# EAGLE library part JHL7440 (library JHL7440_Eagle_R01)
DISCLAIMER: THE DESIGN HASN'T BEEN VERIFIED, JUST FOR YOUR REFERENCE. EVERYTHING IS PROVIDED AS IS, WITHOUT WARRANTY OF ANY KIND, NOT RESPONSIBLE FOR THE QUALITY. If you find any issues with this file, please create an issue in the repo projects.kolabo.dev/
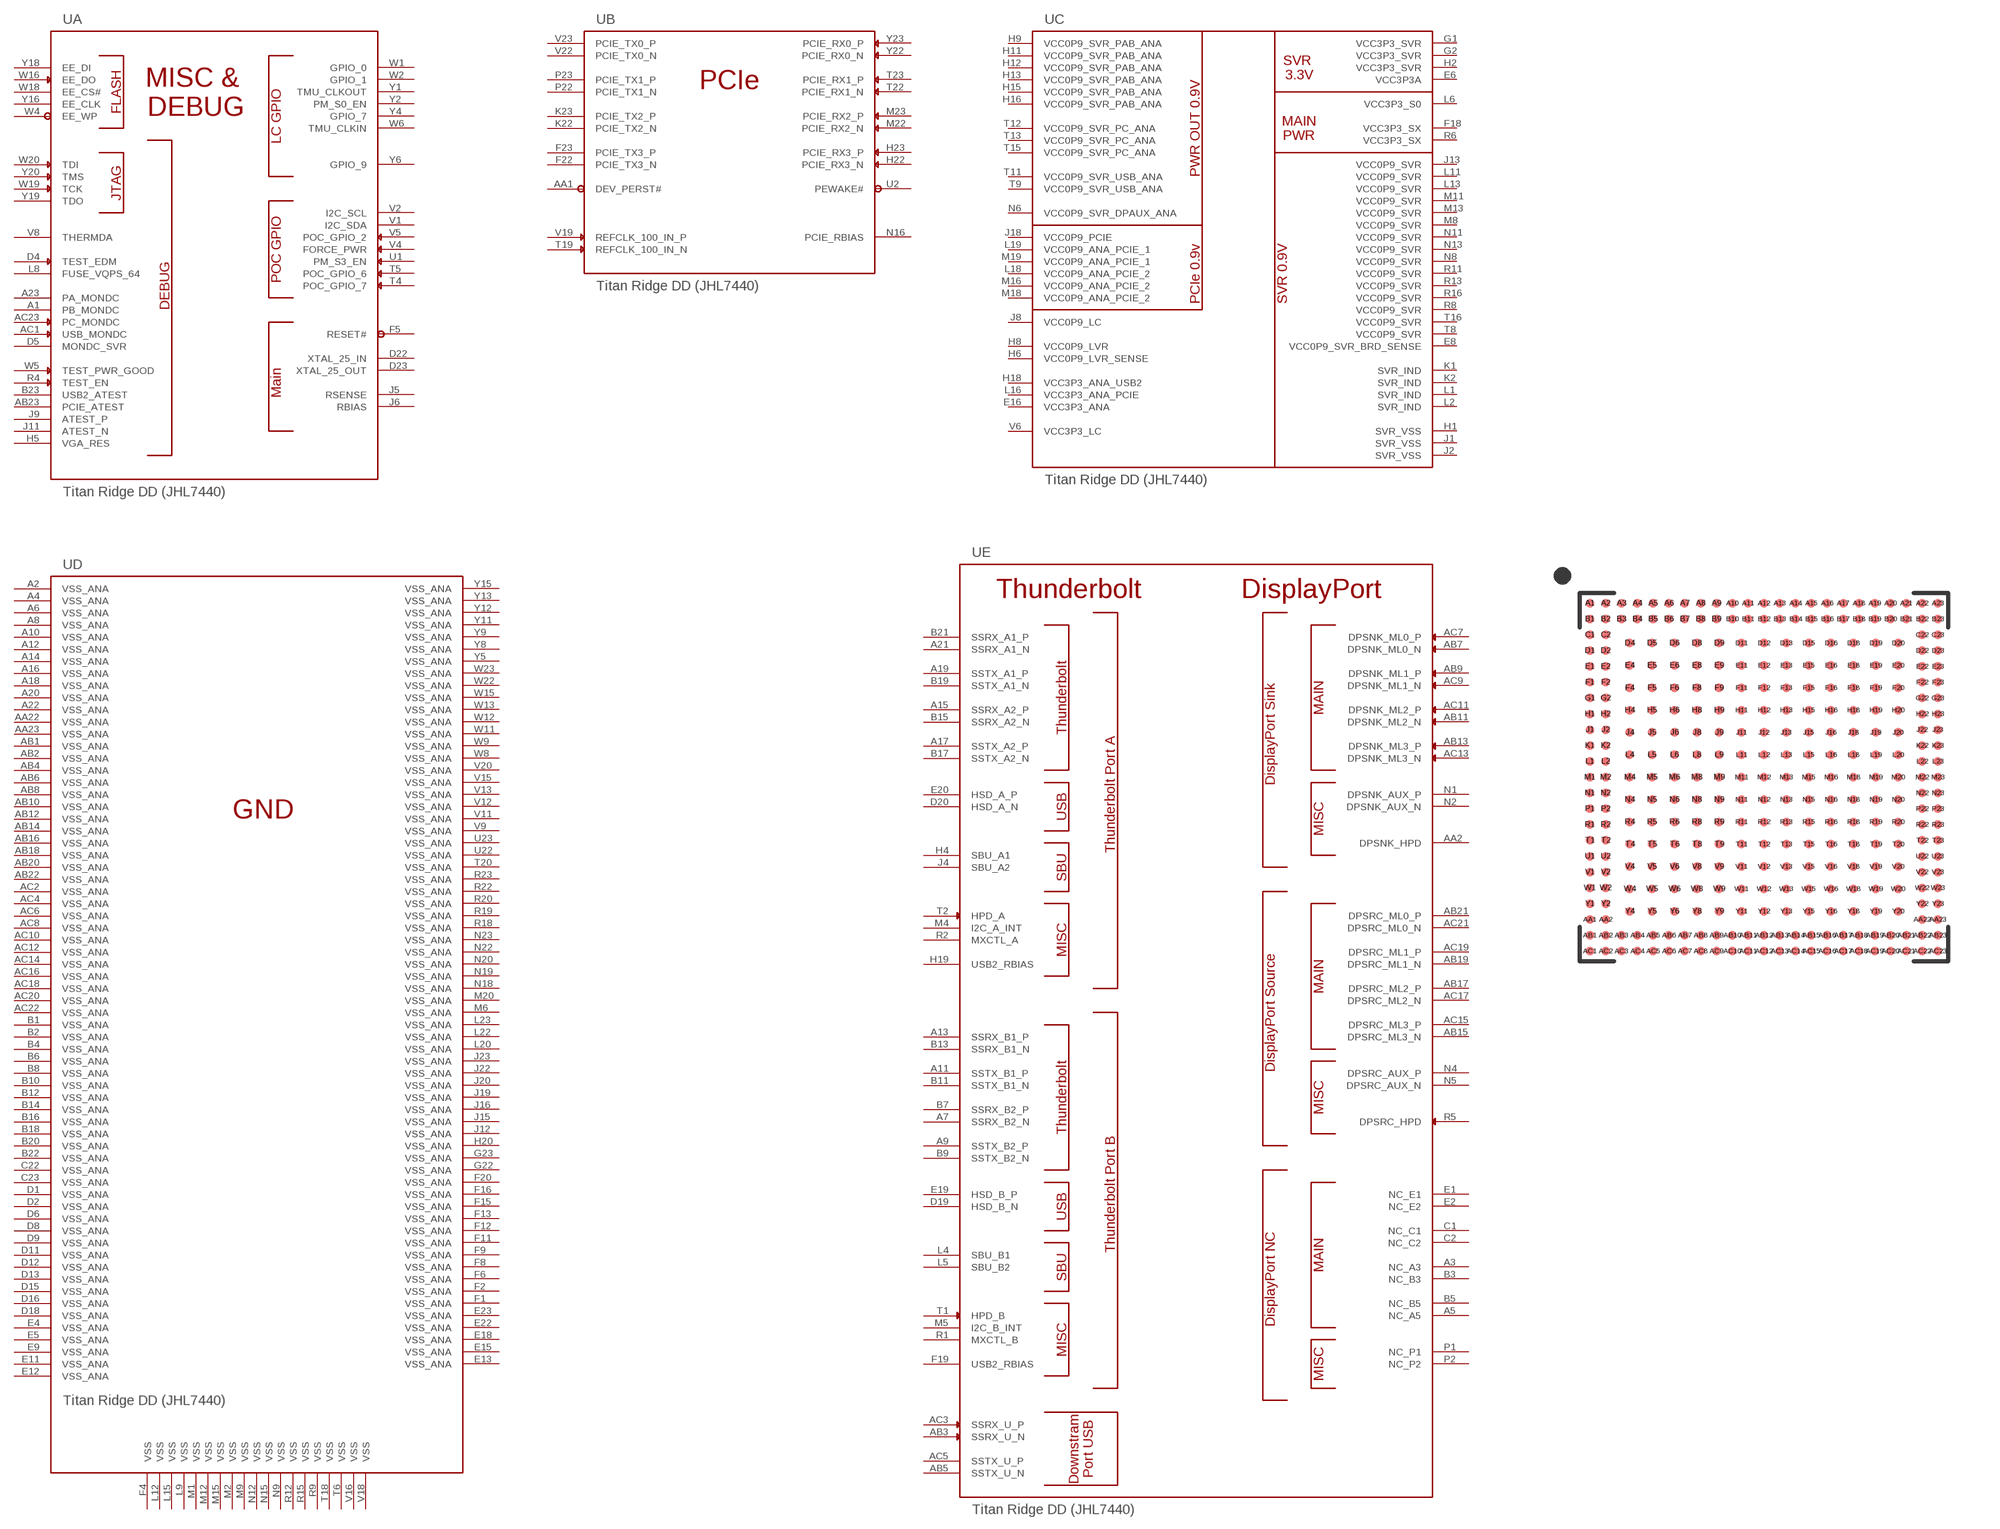
[diagram p0: symbol with the pads of TITAN_RIDGE_BGA_337P; footprint TITAN_RIDGE_BGA_337P]

Designator prefix -; gates A=JHL7440_A B=JHL7440_B C=JHL7440_C D=JHL7440_D E=JHL7440_E

## JHL7440  [TITAN_RIDGE_BGA_337P]
A1  A:PB_MONDC
A2  D:VSS_ANA
A3  E:NC_A3  nc
A4  D:VSS_ANA
A5  E:NC_A5  nc
A6  D:VSS_ANA
A7  E:SSRX_B2_N
A8  D:VSS_ANA
A9  E:SSTX_B2_P
A10  D:VSS_ANA
A11  E:SSTX_B1_P
A12  D:VSS_ANA
A13  E:SSRX_B1_P
A14  D:VSS_ANA
A15  E:SSRX_A2_P
A16  D:VSS_ANA
A17  E:SSTX_A2_P
A18  D:VSS_ANA
A19  E:SSTX_A1_P
A20  D:VSS_ANA
A21  E:SSRX_A1_N
A22  D:VSS_ANA
A23  A:PA_MONDC
AA1  B:DEV_PERST#
AA2  E:DPSNK_HPD
AA22  D:VSS_ANA
AA23  D:VSS_ANA
AB1  D:VSS_ANA
AB2  D:VSS_ANA
AB3  E:SSRX_U_N
AB4  D:VSS_ANA
AB5  E:SSTX_U_N
AB6  D:VSS_ANA
AB7  E:DPSNK_ML0_N
AB8  D:VSS_ANA
AB9  E:DPSNK_ML1_P
AB10  D:VSS_ANA
AB11  E:DPSNK_ML2_N
AB12  D:VSS_ANA
AB13  E:DPSNK_ML3_P
AB14  D:VSS_ANA
AB15  E:DPSRC_ML3_N
AB16  D:VSS_ANA
AB17  E:DPSRC_ML2_P
AB18  D:VSS_ANA
AB19  E:DPSRC_ML1_N
AB20  D:VSS_ANA
AB21  E:DPSRC_ML0_P
AB22  D:VSS_ANA
AB23  A:PCIE_ATEST
AC1  A:USB_MONDC
AC2  D:VSS_ANA
AC3  E:SSRX_U_P
AC4  D:VSS_ANA
AC5  E:SSTX_U_P
AC6  D:VSS_ANA
AC7  E:DPSNK_ML0_P
AC8  D:VSS_ANA
AC9  E:DPSNK_ML1_N
AC10  D:VSS_ANA
AC11  E:DPSNK_ML2_P
AC12  D:VSS_ANA
AC13  E:DPSNK_ML3_N
AC14  D:VSS_ANA
AC15  E:DPSRC_ML3_P
AC16  D:VSS_ANA
AC17  E:DPSRC_ML2_N
AC18  D:VSS_ANA
AC19  E:DPSRC_ML1_P
AC20  D:VSS_ANA
AC21  E:DPSRC_ML0_N
AC22  D:VSS_ANA
AC23  A:PC_MONDC
B1  D:VSS_ANA
B2  D:VSS_ANA
B3  E:NC_B3  nc
B4  D:VSS_ANA
B5  E:NC_B5  nc
B6  D:VSS_ANA
B7  E:SSRX_B2_P
B8  D:VSS_ANA
B9  E:SSTX_B2_N
B10  D:VSS_ANA
B11  E:SSTX_B1_N
B12  D:VSS_ANA
B13  E:SSRX_B1_N
B14  D:VSS_ANA
B15  E:SSRX_A2_N
B16  D:VSS_ANA
B17  E:SSTX_A2_N
B18  D:VSS_ANA
B19  E:SSTX_A1_N
B20  D:VSS_ANA
B21  E:SSRX_A1_P
B22  D:VSS_ANA
B23  A:USB2_ATEST
C1  E:NC_C1  nc
C2  E:NC_C2  nc
C22  D:VSS_ANA
C23  D:VSS_ANA
D1  D:VSS_ANA
D2  D:VSS_ANA
D4  A:TEST_EDM
D5  A:MONDC_SVR
D6  D:VSS_ANA
D8  D:VSS_ANA
D9  D:VSS_ANA
D11  D:VSS_ANA
D12  D:VSS_ANA
D13  D:VSS_ANA
D15  D:VSS_ANA
D16  D:VSS_ANA
D18  D:VSS_ANA
D19  E:HSD_B_N
D20  E:HSD_A_N
D22  A:XTAL_25_IN
D23  A:XTAL_25_OUT
E1  E:NC_E1  nc
E2  E:NC_E2  nc
E4  D:VSS_ANA
E5  D:VSS_ANA
E6  C:VCC3P3A
E8  C:VCC0P9_SVR_BRD_SENSE
E9  D:VSS_ANA
E11  D:VSS_ANA
E12  D:VSS_ANA
E13  D:VSS_ANA
E15  D:VSS_ANA
E16  C:VCC3P3_ANA
E18  D:VSS_ANA
E19  E:HSD_B_P
E20  E:HSD_A_P
E22  D:VSS_ANA
E23  D:VSS_ANA
F1  D:VSS_ANA
F2  D:VSS_ANA
F4  D:VSS
F5  A:RESET#
F6  D:VSS_ANA
F8  D:VSS_ANA
F9  D:VSS_ANA
F11  D:VSS_ANA
F12  D:VSS_ANA
F13  D:VSS_ANA
F15  D:VSS_ANA
F16  D:VSS_ANA
F18  C:VCC3P3_SX
F19  E:USB2_RBIAS
F20  D:VSS_ANA
F22  B:PCIE_TX3_N
F23  B:PCIE_TX3_P
G1  C:VCC3P3_SVR
G2  C:VCC3P3_SVR
G22  D:VSS_ANA
G23  D:VSS_ANA
H1  C:SVR_VSS
H2  C:VCC3P3_SVR
H4  E:SBU_A1
H5  A:VGA_RES
H6  C:VCC0P9_LVR_SENSE
H8  C:VCC0P9_LVR
H9  C:VCC0P9_SVR_PAB_ANA
H11  C:VCC0P9_SVR_PAB_ANA
H12  C:VCC0P9_SVR_PAB_ANA
H13  C:VCC0P9_SVR_PAB_ANA
H15  C:VCC0P9_SVR_PAB_ANA
H16  C:VCC0P9_SVR_PAB_ANA
H18  C:VCC3P3_ANA_USB2
H19  E:USB2_RBIAS
H20  D:VSS_ANA
H22  B:PCIE_RX3_N
H23  B:PCIE_RX3_P
J1  C:SVR_VSS
J2  C:SVR_VSS
J4  E:SBU_A2
J5  A:RSENSE
J6  A:RBIAS
J8  C:VCC0P9_LC
J9  A:ATEST_P
J11  A:ATEST_N
J12  D:VSS_ANA
J13  C:VCC0P9_SVR
J15  D:VSS_ANA
J16  D:VSS_ANA
J18  C:VCC0P9_PCIE
J19  D:VSS_ANA
J20  D:VSS_ANA
J22  D:VSS_ANA
J23  D:VSS_ANA
K1  C:SVR_IND
K2  C:SVR_IND
K22  B:PCIE_TX2_N
K23  B:PCIE_TX2_P
L1  C:SVR_IND
L2  C:SVR_IND
L4  E:SBU_B1
L5  E:SBU_B2
L6  C:VCC3P3_S0
L8  A:FUSE_VQPS_64
L9  D:VSS
L11  C:VCC0P9_SVR
L12  D:VSS
L13  C:VCC0P9_SVR
L15  D:VSS
L16  C:VCC3P3_ANA_PCIE
L18  C:VCC0P9_ANA_PCIE_2
L19  C:VCC0P9_ANA_PCIE_1
L20  D:VSS_ANA
L22  D:VSS_ANA
L23  D:VSS_ANA
M1  D:VSS
M2  D:VSS
M4  E:I2C_A_INT
M5  E:I2C_B_INT
M6  D:VSS_ANA
M8  C:VCC0P9_SVR
M9  D:VSS
M11  C:VCC0P9_SVR
M12  D:VSS
M13  C:VCC0P9_SVR
M15  D:VSS
M16  C:VCC0P9_ANA_PCIE_2
M18  C:VCC0P9_ANA_PCIE_2
M19  C:VCC0P9_ANA_PCIE_1
M20  D:VSS_ANA
M22  B:PCIE_RX2_N
M23  B:PCIE_RX2_P
N1  E:DPSNK_AUX_P
N2  E:DPSNK_AUX_N
N4  E:DPSRC_AUX_P
N5  E:DPSRC_AUX_N
N6  C:VCC0P9_SVR_DPAUX_ANA
N8  C:VCC0P9_SVR
N9  D:VSS
N11  C:VCC0P9_SVR
N12  D:VSS
N13  C:VCC0P9_SVR
N15  D:VSS
N16  B:PCIE_RBIAS
N18  D:VSS_ANA
N19  D:VSS_ANA
N20  D:VSS_ANA
N22  D:VSS_ANA
N23  D:VSS_ANA
P1  E:NC_P1  nc
P2  E:NC_P2  nc
P22  B:PCIE_TX1_N
P23  B:PCIE_TX1_P
R1  E:MXCTL_B
R2  E:MXCTL_A
R4  A:TEST_EN
R5  E:DPSRC_HPD
R6  C:VCC3P3_SX
R8  C:VCC0P9_SVR
R9  D:VSS
R11  C:VCC0P9_SVR
R12  D:VSS
R13  C:VCC0P9_SVR
R15  D:VSS
R16  C:VCC0P9_SVR
R18  D:VSS_ANA
R19  D:VSS_ANA
R20  D:VSS_ANA
R22  D:VSS_ANA
R23  D:VSS_ANA
T1  E:HPD_B
T2  E:HPD_A
T4  A:POC_GPIO_7
T5  A:POC_GPIO_6
T6  D:VSS
T8  C:VCC0P9_SVR
T9  C:VCC0P9_SVR_USB_ANA
T11  C:VCC0P9_SVR_USB_ANA
T12  C:VCC0P9_SVR_PC_ANA
T13  C:VCC0P9_SVR_PC_ANA
T15  C:VCC0P9_SVR_PC_ANA
T16  C:VCC0P9_SVR
T18  D:VSS
T19  B:REFCLK_100_IN_N
T20  D:VSS_ANA
T22  B:PCIE_RX1_N
T23  B:PCIE_RX1_P
U1  A:PM_S3_EN
U2  B:PEWAKE#
U22  D:VSS_ANA
U23  D:VSS_ANA
V1  A:I2C_SDA
V2  A:I2C_SCL
V4  A:FORCE_PWR
V5  A:POC_GPIO_2
V6  C:VCC3P3_LC
V8  A:THERMDA
V9  D:VSS_ANA
V11  D:VSS_ANA
V12  D:VSS_ANA
V13  D:VSS_ANA
V15  D:VSS_ANA
V16  D:VSS
V18  D:VSS
V19  B:REFCLK_100_IN_P
V20  D:VSS_ANA
V22  B:PCIE_TX0_N
V23  B:PCIE_TX0_P
W1  A:GPIO_0
W2  A:GPIO_1
W4  A:EE_WP
W5  A:TEST_PWR_GOOD
W6  A:TMU_CLKIN
W8  D:VSS_ANA
W9  D:VSS_ANA
W11  D:VSS_ANA
W12  D:VSS_ANA
W13  D:VSS_ANA
W15  D:VSS_ANA
W16  A:EE_DO
W18  A:EE_CS#
W19  A:TCK
W20  A:TDI
W22  D:VSS_ANA
W23  D:VSS_ANA
Y1  A:TMU_CLKOUT
Y2  A:PM_S0_EN
Y4  A:GPIO_7
Y5  D:VSS_ANA
Y6  A:GPIO_9
Y8  D:VSS_ANA
Y9  D:VSS_ANA
Y11  D:VSS_ANA
Y12  D:VSS_ANA
Y13  D:VSS_ANA
Y15  D:VSS_ANA
Y16  A:EE_CLK
Y18  A:EE_DI
Y19  A:TDO
Y20  A:TMS
Y22  B:PCIE_RX0_N
Y23  B:PCIE_RX0_P

## Footprint TITAN_RIDGE_BGA_337P (pad centres in mm)
Package Description Package Size: 10.70 x 10.70 x 0.70 mm Package Type: FC-CSP Package Pins: 337 Pins Package Outer BGA Pitch: 460μm Package Inner BGA Pitch: 650μm DISCLAIMER: THE DESIGN HASN'T BEEN VERIFIED, JUST FOR YOUR REFERENCE. EVERYTHING IS PROVIDED AS IS, WITHOUT WARRANTY OF ANY KIND, NOT RESPONSIBLE FOR THE QUALITY. If you find any issues with this file, please create an issue in the repo projects.kolabo.dev/
smd 0.25 x 0.25: A1 -5.06,5.06; A2 -4.6,5.06; A3 -4.14,5.06; A4 -3.68,5.06; A5 -3.22,5.06; A6 -2.76,5.06; A7 -2.3,5.06; A8 -1.84,5.06; A9 -1.38,5.06; A10 -0.92,5.06; A11 -0.46,5.06; A12 0,5.06; A13 0.46,5.06; A14 0.92,5.06; A15 1.38,5.06; A16 1.84,5.06; A17 2.3,5.06; A18 2.76,5.06; A19 3.22,5.06; A20 3.68,5.06; A21 4.14,5.06; A22 4.6,5.06; A23 5.06,5.06; AA1 -5.06,-4.14; AA2 -4.6,-4.14; AA22 4.6,-4.14; AA23 5.06,-4.14; AB1 -5.06,-4.6; AB2 -4.6,-4.6; AB3 -4.14,-4.6; AB4 -3.68,-4.6; AB5 -3.22,-4.6; AB6 -2.76,-4.6; AB7 -2.3,-4.6; AB8 -1.84,-4.6; AB9 -1.38,-4.6; AB10 -0.92,-4.6; AB11 -0.46,-4.6; AB12 0,-4.6; AB13 0.46,-4.6; AB14 0.92,-4.6; AB15 1.38,-4.6; AB16 1.84,-4.6; AB17 2.3,-4.6; AB18 2.76,-4.6; AB19 3.22,-4.6; AB20 3.68,-4.6; AB21 4.14,-4.6; AB22 4.6,-4.6; AB23 5.06,-4.6; AC1 -5.06,-5.06; AC2 -4.6,-5.06; AC3 -4.14,-5.06; AC4 -3.68,-5.06; AC5 -3.22,-5.06; AC6 -2.76,-5.06; AC7 -2.3,-5.06; AC8 -1.84,-5.06; AC9 -1.38,-5.06; AC10 -0.92,-5.06; AC11 -0.46,-5.06; AC12 0,-5.06; AC13 0.46,-5.06; AC14 0.92,-5.06; AC15 1.38,-5.06; AC16 1.84,-5.06; AC17 2.3,-5.06; AC18 2.76,-5.06; AC19 3.22,-5.06; AC20 3.68,-5.06; AC21 4.14,-5.06; AC22 4.6,-5.06; AC23 5.06,-5.06; B1 -5.06,4.6; B2 -4.6,4.6; B3 -4.14,4.6; B4 -3.68,4.6; B5 -3.22,4.6; B6 -2.76,4.6; B7 -2.3,4.6; B8 -1.84,4.6; B9 -1.38,4.6; B10 -0.92,4.6; B11 -0.46,4.6; B12 0,4.6; B13 0.46,4.6; B14 0.92,4.6; B15 1.38,4.6; B16 1.84,4.6; B17 2.3,4.6; B18 2.76,4.6; B19 3.22,4.6; B20 3.68,4.6; B21 4.14,4.6; B22 4.6,4.6; B23 5.06,4.6; C1 -5.06,4.14; C2 -4.6,4.14; C22 4.6,4.14; C23 5.06,4.14; D1 -5.06,3.68; D2 -4.6,3.68; D4 -3.9,3.9; D5 -3.25,3.9; D6 -2.6,3.9; D8 -1.95,3.9; D9 -1.3,3.9; D11 -0.65,3.9; D12 0,3.9; D13 0.65,3.9; D15 1.3,3.9; D16 1.95,3.9; D18 2.6,3.9; D19 3.25,3.9; D20 3.9,3.9; D22 4.6,3.68; D23 5.06,3.68; E1 -5.06,3.22; E2 -4.6,3.22; E4 -3.9,3.25; E5 -3.25,3.25; E6 -2.6,3.25; E8 -1.95,3.25; E9 -1.3,3.25; E11 -0.65,3.25; E12 0,3.25; E13 0.65,3.25; E15 1.3,3.25; E16 1.95,3.25; E18 2.6,3.25; E19 3.25,3.25; E20 3.9,3.25; E22 4.6,3.22; E23 5.06,3.22; F1 -5.06,2.76; F2 -4.6,2.76; F4 -3.9,2.6; F5 -3.25,2.6; F6 -2.6,2.6; F8 -1.95,2.6; F9 -1.3,2.6; F11 -0.65,2.6; F12 0,2.6; F13 0.65,2.6; F15 1.3,2.6; F16 1.95,2.6; F18 2.6,2.6; F19 3.25,2.6; F20 3.9,2.6; F22 4.6,2.76; F23 5.06,2.76; G1 -5.06,2.3; G2 -4.6,2.3; G22 4.6,2.3; G23 5.06,2.3; H1 -5.06,1.84; H2 -4.6,1.84; H4 -3.9,1.95; H5 -3.25,1.95; H6 -2.6,1.95; H8 -1.95,1.95; H9 -1.3,1.95; H11 -0.65,1.95; H12 0,1.95; H13 0.65,1.95; H15 1.3,1.95; H16 1.95,1.95; H18 2.6,1.95; H19 3.25,1.95; H20 3.9,1.95; H22 4.6,1.84; H23 5.06,1.84; J1 -5.06,1.38; J2 -4.6,1.38; J4 -3.9,1.3; J5 -3.25,1.3; J6 -2.6,1.3; J8 -1.95,1.3; J9 -1.3,1.3; J11 -0.65,1.3; J12 0,1.3; J13 0.65,1.3; J15 1.3,1.3; J16 1.95,1.3; J18 2.6,1.3; J19 3.25,1.3; J20 3.9,1.3; J22 4.6,1.38; J23 5.06,1.38; K1 -5.06,0.92; K2 -4.6,0.92; K22 4.6,0.92; K23 5.06,0.92; L1 -5.06,0.46; L2 -4.6,0.46; L4 -3.9,0.65; L5 -3.25,0.65; L6 -2.6,0.65; L8 -1.95,0.65; L9 -1.3,0.65; L11 -0.65,0.65; L12 0,0.65; L13 0.65,0.65; L15 1.3,0.65; L16 1.95,0.65; L18 2.6,0.65; L19 3.25,0.65; L20 3.9,0.65; L22 4.6,0.46; L23 5.06,0.46; M1 -5.06,0; M2 -4.6,0; M4 -3.9,0; M5 -3.25,0; M6 -2.6,0; M8 -1.95,0; M9 -1.3,0; M11 -0.65,0; M12 0,0; M13 0.65,0; M15 1.3,0; M16 1.95,0; M18 2.6,0; M19 3.25,0; M20 3.9,0; M22 4.6,0; M23 5.06,0; N1 -5.06,-0.46; N2 -4.6,-0.46; N4 -3.9,-0.65; N5 -3.25,-0.65; N6 -2.6,-0.65; N8 -1.95,-0.65; N9 -1.3,-0.65; N11 -0.65,-0.65; N12 0,-0.65; N13 0.65,-0.65; N15 1.3,-0.65; N16 1.95,-0.65; N18 2.6,-0.65; N19 3.25,-0.65; N20 3.9,-0.65; N22 4.6,-0.46; N23 5.06,-0.46; P1 -5.06,-0.92; P2 -4.6,-0.92; P22 4.6,-0.92; P23 5.06,-0.92; R1 -5.06,-1.38; R2 -4.6,-1.38; R4 -3.9,-1.3; R5 -3.25,-1.3; R6 -2.6,-1.3; R8 -1.95,-1.3; R9 -1.3,-1.3; R11 -0.65,-1.3; R12 0,-1.3; R13 0.65,-1.3; R15 1.3,-1.3; R16 1.95,-1.3; R18 2.6,-1.3; R19 3.25,-1.3; R20 3.9,-1.3; R22 4.6,-1.38; R23 5.06,-1.38; T1 -5.06,-1.84; T2 -4.6,-1.84; T4 -3.9,-1.95; T5 -3.25,-1.95; T6 -2.6,-1.95; T8 -1.95,-1.95; T9 -1.3,-1.95; T11 -0.65,-1.95; T12 0,-1.95; T13 0.65,-1.95; T15 1.3,-1.95; T16 1.95,-1.95; T18 2.6,-1.95; T19 3.25,-1.95; T20 3.9,-1.95; T22 4.6,-1.84; T23 5.06,-1.84; U1 -5.06,-2.3; U2 -4.6,-2.3; U22 4.6,-2.3; U23 5.06,-2.3; V1 -5.06,-2.76; V2 -4.6,-2.76; V4 -3.9,-2.6; V5 -3.25,-2.6; V6 -2.6,-2.6; V8 -1.95,-2.6; V9 -1.3,-2.6; V11 -0.65,-2.6; V12 0,-2.6; V13 0.65,-2.6; V15 1.3,-2.6; V16 1.95,-2.6; V18 2.6,-2.6; V19 3.25,-2.6; V20 3.9,-2.6; V22 4.6,-2.76; V23 5.06,-2.76; W1 -5.06,-3.22; W2 -4.6,-3.22; W4 -3.9,-3.25; W5 -3.25,-3.25; W6 -2.6,-3.25; W8 -1.95,-3.25; W9 -1.3,-3.25; W11 -0.65,-3.25; W12 0,-3.25; W13 0.65,-3.25; W15 1.3,-3.25; W16 1.95,-3.25; W18 2.6,-3.25; W19 3.25,-3.25; W20 3.9,-3.25; W22 4.6,-3.22; W23 5.06,-3.22; Y1 -5.06,-3.68; Y2 -4.6,-3.68; Y4 -3.9,-3.9; Y5 -3.25,-3.9; Y6 -2.6,-3.9; Y8 -1.95,-3.9; Y9 -1.3,-3.9; Y11 -0.65,-3.9; Y12 0,-3.9; Y13 0.65,-3.9; Y15 1.3,-3.9; Y16 1.95,-3.9; Y18 2.6,-3.9; Y19 3.25,-3.9; Y20 3.9,-3.9; Y22 4.6,-3.68; Y23 5.06,-3.68